# EAGLE library part 1071184 (library 1071184)
PCB terminal block, nominal current: 13.5 A, rated voltage (III/2): 160 V, nominal cross section: 1.5 mm, Number of rows: 1, Number of positions per row: 7, product range: SPTA 1,5/..-THR, pitch: 3.81 mm, connection method: Push-in spring connection, mounting: THR soldering, conductor/PCB connection direction: 45 , color: black, Solder pin [P]: 2.6 mm, type of packaging: 44 mm wide tape Source: Datasheet <https://www.phoenixcontact.com/online/portal/us/?uri=pxc-oc-itemdetail:pid=1071184&library=usen&pcck=P-11-01-05&tab=1&selectedCategory=ALL>
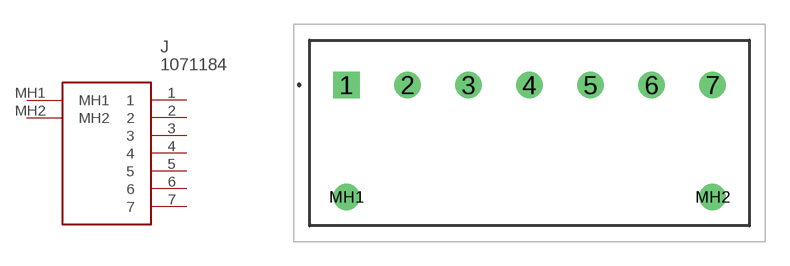
[diagram p0: symbol with the pads of 1071184; footprint 1071184]

Designator prefix J

## 1071184 (Description: PCB terminal block, nominal current: 13.5 A, rated voltage (III/2): 160 V, nominal cross section: 1.5 mm, Number of rows: 1, Number of positions per row: 7, product range: SPTA 1,5/..-THR, pitch: 3.81 mm, connection method: Push-in spring connection, mounting: THR soldering, conductor/PCB connection direction: 45 , color: black, Solder pin [P]: 2.6 mm, type of packaging: 44 mm wide tape; Height: 12.62mm; Manufacturer_Name: Phoenix Contact; Manufacturer_Part_Number: 1071184; Mouser_Part_Number: 651-1071184; Mouser_Price-Stock: https://www.mouser.co.uk/ProductDetail/Phoenix-Contact/1071184?qs=P19jvy6W2mc%252BSFHTGS8UdQ%3D%3D)  [1071184]
1  1
2  2
3  3
4  4
5  5
6  6
7  7
MH1  MH1
MH2  MH2

## Footprint 1071184 (pad centres in mm)
1071184
drill 1.1 pad 1.65 square: 1 0,0
drill 1.1 pad 1.65: 2 3.81,0; 3 7.62,0; 4 11.43,0; 5 15.24,0; 6 19.05,0; 7 22.86,0; MH1 0,-7; MH2 22.86,-7